# Altium footprint library project.PcbLib: 2 footprints
Each footprint in its own frame and in the unit in brackets; x right, y up, seen from the top. Pads: shape width x height; smd on the part's side, far side on the other; paste and mask are expansions set on the pad; w line width, h text height; cw(c..) or ccw(c..) is an arc to the next point about the centre after c.
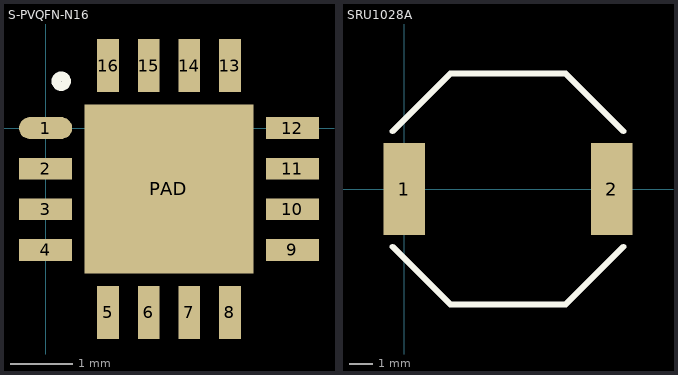
[diagram p0: the footprints below, top view; thin cyan lines are the x and y axes]

## S-PVQFN-N16 [mm] "TPS6109x Synchronous Boost Converter With 2-A Switch"
pads (17):
  oval 0.85x0.35 smd: 1(0,0)
  rect 0.85x0.35 smd: 2(0,-0.65) 3(0,-1.3) 4(0,-1.95) 9(3.95,-1.95) 10(3.95,-1.3) 11(3.95,-0.65) 12(3.95,0)
  rect 0.35x0.85 smd: 5(1,-2.95) 6(1.65,-2.95) 7(2.3,-2.95) 8(2.95,-2.95) 13(2.95,1) 14(2.3,1) 15(1.65,1) 16(1,1)
  rect 2.7x2.7 smd: PAD(1.975,-0.975)
Top Overlay:
  circle w0.15: c0.25,0.75 r0.08

## SRU1028A [mm] "Bournes SRU1028A Series - Shielded Power Inductors"
pads (2):
  rect 1.8x4 smd: 1(0,0) 2(9,0)
Top Overlay:
  lines w0.254: -0.5,-2.5 2,-5 7,-5 9.5,-2.5 ; -0.5,2.5 2,5 7,5 9.5,2.5 ; 9.5,2.5 9.5,2.5